# EAGLE library part TS4890 (library Elecrow_IC)
Rail To Rail OUTPUT 1W Audio Power Amplifier With Standby Mode Active Low http://www.alldatasheet.com/datasheet-pdf/pdf/25462/STMICROELECTRONICS/TS4890.html
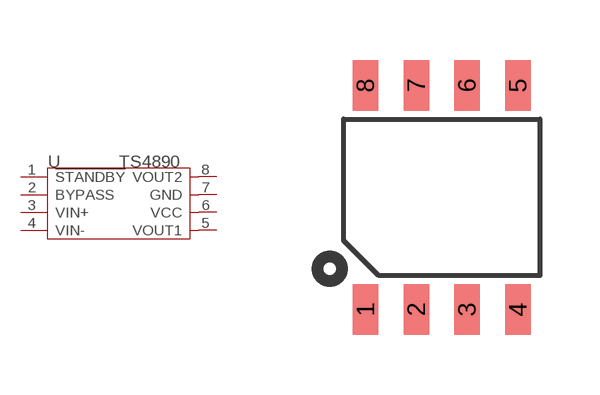
[diagram p4: symbol with the pads of SO08-6.0; footprint SO08-6.0]

Designator prefix -

## TS4890D  [SO08-6.0]
1  !STANDBY
2  BYPASS
3  VIN+
4  VIN-
5  VOUT1
6  VCC
7  GND
8  VOUT2

## Footprint SO08-6.0 (pad centres in mm)
smd 0.635 x 1.27: 1 -1.905,-2.8; 2 -0.635,-2.8; 3 0.635,-2.8; 4 1.905,-2.8; 5 1.905,2.8; 6 0.635,2.8; 7 -0.635,2.8; 8 -1.905,2.8